# EAGLE library part NOISY_CRICKET (library audioflyer)
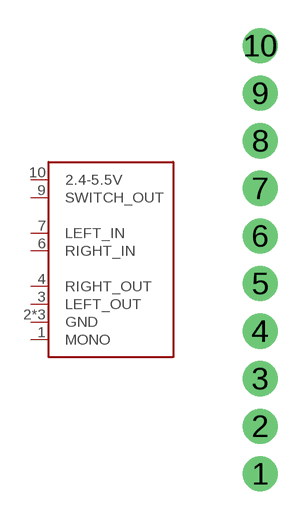
[diagram p0: symbol with the pads of NOISY_CRICKET_W_PTH; footprint NOISY_CRICKET_W_PTH]

Designator prefix -

## NOISY_CRICKET  [NOISY_CRICKET_W_PTH]
1  MONO
2  GND
3  LEFT_OUT
4  RIGHT_OUT
5  GND
6  RIGHT_IN
7  LEFT_IN
8  GND
9  SWITCH_OUT
10  2.4-5.5V

## Footprint NOISY_CRICKET_W_PTH (pad centres in mm)
drill 1.041 pad 1.88: 1 -26.67,-2.54; 2 -26.67,0; 3 -26.67,2.54; 4 -26.67,5.08; 5 -26.67,7.62; 6 -26.67,10.16; 7 -26.67,12.7; 8 -26.67,15.24; 9 -26.67,17.78; 10 -26.67,20.32